# Altium footprint library fuse.PcbLib: 1 footprints
Each footprint in its own frame and in the unit in brackets; x right, y up, seen from the top. Pads: shape width x height; smd on the part's side, far side on the other; paste and mask are expansions set on the pad; w line width, h text height; cw(c..) or ccw(c..) is an arc to the next point about the centre after c.
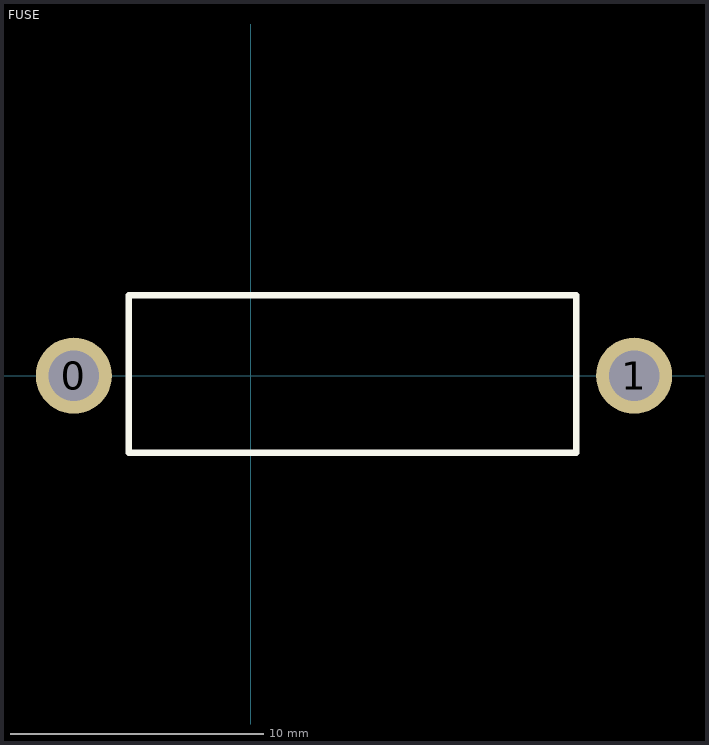
[diagram p0: the footprint, top view; thin cyan lines are the x and y axes]

## FUSE [mm]
pads (2):
  round 3 hole 2: 0(-6.985,0) 1(15.113,0)
Top Overlay:
  lines w0.254: -4.826,-3.048 -4.826,3.175 12.827,3.175 12.827,-3.048 -4.826,-3.048